# Altium footprint library KRM55TR71H226MH01K.PcbLib: 2 footprints
Each footprint in its own frame and in the unit in brackets; x right, y up, seen from the top. Pads: shape width x height; smd on the part's side, far side on the other; paste and mask are expansions set on the pad; w line width, h text height; cw(c..) or ccw(c..) is an arc to the next point about the centre after c.
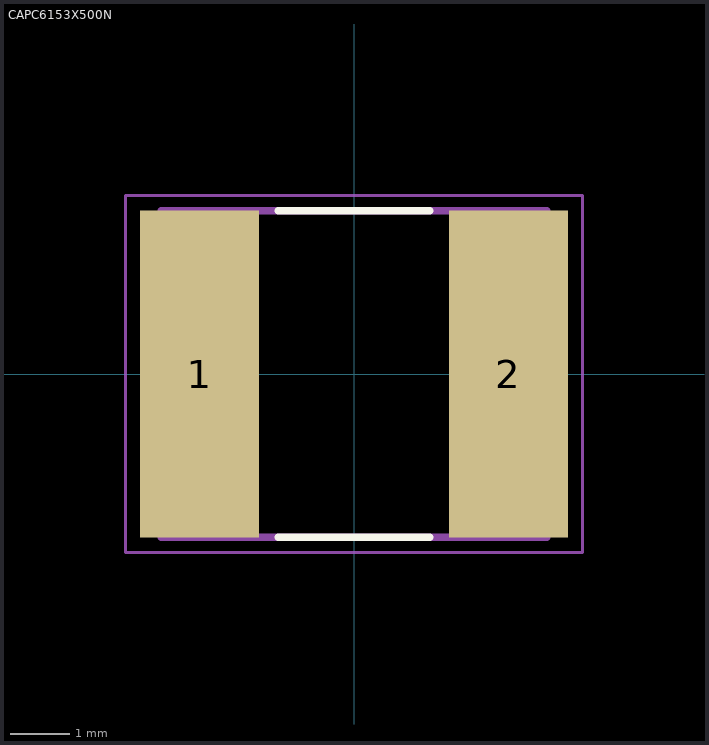
[diagram p0: the footprints below, top view; thin cyan lines are the x and y axes]

## CAPC6153X500N [mm]
pads (2):
  rect 2x5.52 smd: 1(-2.603,0) 2(2.603,0)
Top Overlay:
  lines w0.127: -1.28,-2.75 1.28,-2.75 ; -1.28,2.75 1.28,2.75
Mechanical 4:
  lines w0.127: -3.25,-2.75 -3.25,2.75 ; -3.25,-2.75 3.25,-2.75 ; -3.25,-2.75 -3.25,2.75 ; -3.25,-2.75 3.25,-2.75 ; -3.25,2.75 3.25,2.75 ; -3.25,2.75 3.25,2.75 ; 3.25,-2.75 3.25,2.75 ; 3.25,-2.75 3.25,2.75
Mechanical 16:
  lines w0.05: -3.854,-3.008 -3.854,3.008 3.854,3.008 3.854,-3.008 -3.854,-3.008
3D body: height 4.8, standoff 0, extent -3.556,-2.667 3.556,2.667
3D body: height 84.67, standoff -84.67, extent -3.429,1.778 -3.429,1.778

## PCBComponent_1 [mm]